# Altium schematic symbol library SK34SMA-3G.SchLib: 1 symbol
Pins are listed as number, name and electrical type; pins without a type are passive.

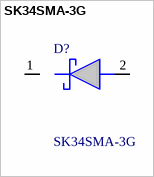
[diagram p0: symbol SK34SMA-3G]

## SK34SMA-3G
designator D?
Schottky Diodes & Rectifiers Schottky Diode, SMA, 40V, 3A; Manufacturer_Name: Diotec; Geometry.Height: 2.4mm; Manufacturer_Part_Number: SK34SMA-3G; Mouser Part Number: 637-SK34SMA-3G; Mouser Price/Stock: https://www.mouser.co.uk/ProductDetail/Diotec-Semiconductor/SK34SMA-3G?qs=OlC7AqGiEDkrZWGTiN%2FPpg%3D%3D; Arrow Part Number: SK34SMA-3G; Arrow Price/Stock: https://www.arrow.com/en/products/sk34sma-3g/diotec-semiconductor-ag?region=europe; Datasheet Link: https://diotec.com/request/datasheet/sk34sma-3g.pdf
footprint DIOM5027X240N
pins: 1 K, 2 A